# Altium footprint library B3F_S_650X450.PcbLib: 1 footprints
Each footprint in its own frame and in the unit in brackets; x right, y up, seen from the top. Pads: shape width x height; smd on the part's side, far side on the other; paste and mask are expansions set on the pad; w line width, h text height; cw(c..) or ccw(c..) is an arc to the next point about the centre after c.
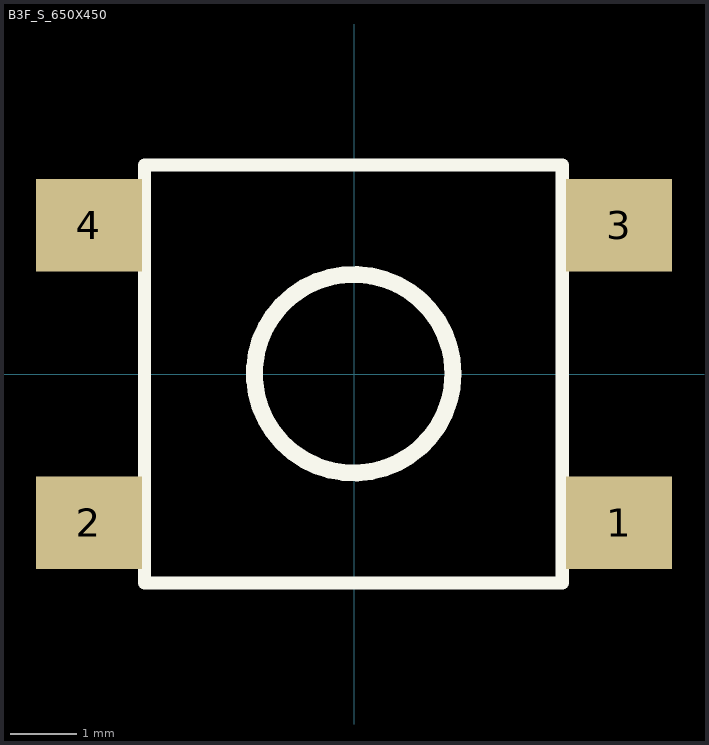
[diagram p0: the footprint, top view; thin cyan lines are the x and y axes]

## B3F_S_650X450 [mm] "Space-Saving Tactile Switch Provides"
pads (4):
  rect 1.6x1.4 smd: 1(3.998,-2.244) 2(-4.012,-2.244) 3(3.998,2.246) 4(-4.012,2.246)
Top Overlay:
  circle w0.254: c-0.012,0.006 r1.5
  lines w0.2: -3.172,-3.154 -3.172,3.156 3.138,3.156 3.138,-3.154 -3.172,-3.154
3D body: height 4.57, standoff 0, extent -1.511,-1.494 1.488,1.505
3D body: height 0.76, standoff 0, extent -4.572,1.778 -2.794,2.667
3D body: height 0.76, standoff 0, extent 2.794,-2.667 4.572,-1.778
3D body: height 0.76, standoff 0, extent 2.794,1.778 4.572,2.667
3D body: height 0.76, standoff 0, extent -4.572,-2.667 -2.794,-1.778
3D body: height 2.5, standoff 0, extent -3.171,-3.154 3.138,3.155